# Altium integrated library CommonDevices_Shevchenko.IntLib: 5 symbols
Pins are listed as number, name and electrical type; pins without a type are passive.

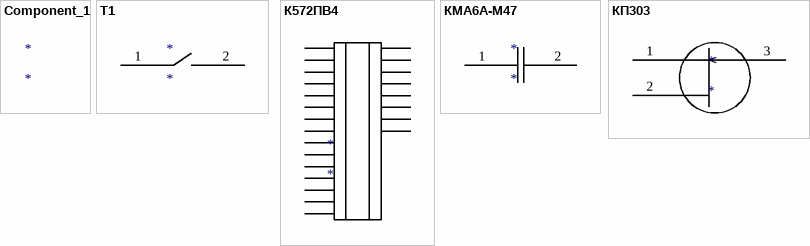
[diagram p0: symbols Component_1 to КП303]

## Component_1
designator *

## T1
designator *
pins: 1, 2

## К572ПВ4
designator *
pins: 1, 2, 3, 4, 5, 6, 7, 8, 9, 10, 11, 12, 13, 14, 15, 16, 17, 18, 19, 20, 21, 22, 23

## КМА6А-М47
designator *
pins: 1, 2

## КП303
designator *
pins: 1, 2, 3